# Altium footprint library 二极管.PcbLib: 12 footprints
Each footprint in its own frame and in the unit in brackets; x right, y up, seen from the top. Pads: shape width x height; smd on the part's side, far side on the other; paste and mask are expansions set on the pad; w line width, h text height; cw(c..) or ccw(c..) is an arc to the next point about the centre after c.
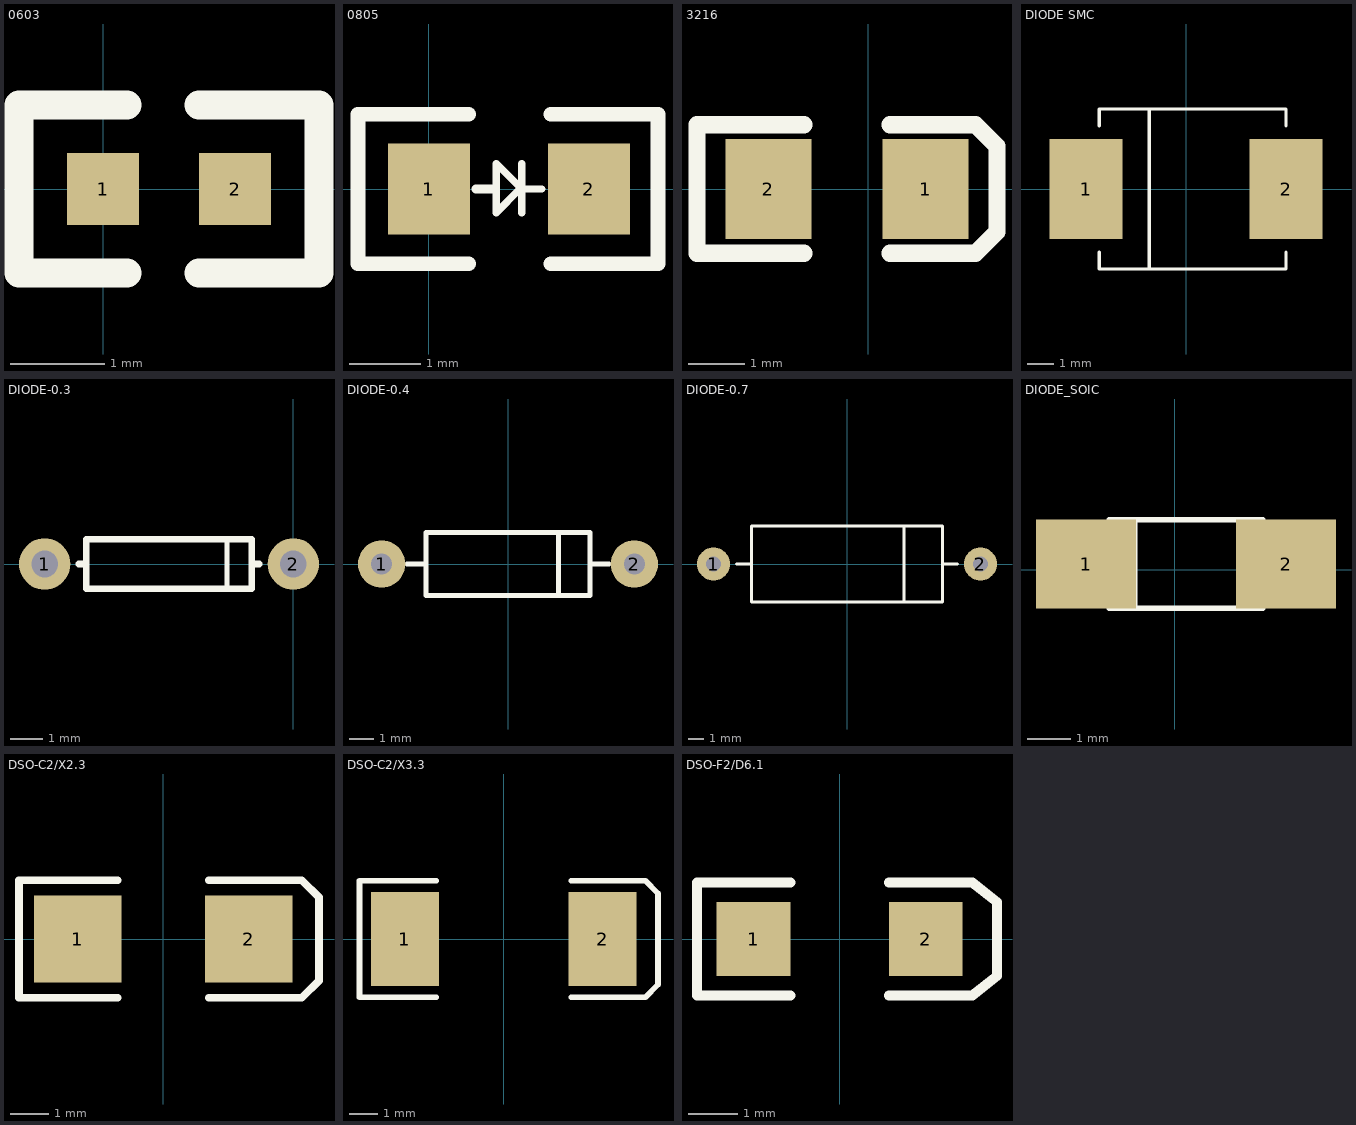
[diagram p0: the footprints below, top view; thin cyan lines are the x and y axes]

## 0603 [mil]
pads (2):
  rect 30x30 smd: 1(0,0) 2(55,0)
Top Overlay:
  lines w12: 10,-35 -35,-35 -35,35 10,35 ; 40,-35 90,-35 90,35 40,35
3D body "DIOMELF1911N.STEP": height 41.65, standoff -1.65, extent -12.4,-21.65 62.4,21.65

## 0805 [mil]
pads (2):
  rect 45x50 smd: 1(0,0) 2(88,0)
Top Overlay:
  lines w4: 51,-13 51,14 ; 62,0 51,0 ; 51,0 50,0 37,-13 37,14 51,0
  lines w5: 26,0 36,0
  lines w8: 22,-41 -39,-41 -39,41 22,41 ; 67,-41 126,-41 126,41 67,41
3D body "DIOMELF3414N.STEP": height 52.56, standoff -2.56, extent -26.93,-27.56 106.93,27.56

## 3216 [mil]
pads (2):
  rect 60x70 smd: 1(40,0) 2(-70,0)
Top Overlay:
  lines w12: -45,-45 -120,-45 -120,45 -45,45 ; 15,-45 75,-45 90,-30 90,30 75,45 15,45

## DIODE SMC [mil]
pads (2):
  rect 110x150 smd: 1(-150,0) 2(150,0)
Top Overlay:
  lines w5: -130,-95 -130,-120 150,-120 150,-95 ; -130,95 -130,120 150,120 150,95 ; -55,-120 -55,120
Mechanical 1:
  lines w1: -130,-120 150,-120 ; -130,120 150,120
3D body "DO-214AA.STEP": height 0, standoff -98.43, extent -110.25,-76.78 110.22,76.76

## DIODE-0.3 [mil]
height 78.74
pads (2):
  round 62 hole 32: 1(-300,0) 2(0,0)
Top Overlay:
  lines w5: -163,29 -154,29 ; -145,29 -138,29
  lines w6.06: -80,-30 -80,30
  lines w7.87: -259,0 -250,0 ; -41,0 -50,0 ; -50,0 -50,30 -250,30 -250,-30 -50,-30 -50,0

## DIODE-0.4 [mm]
pads (2):
  round 1.9 hole 0.85: 1(-5.08,0) 2(5.08,0)
Top Overlay:
  lines w0.2: -4.064,0 -3.302,0 ; 2.032,-1.27 2.032,1.27 ; 3.302,0 4.064,0 ; -3.302,-1.27 -3.302,1.27 3.302,1.27 3.302,-1.27 -3.302,-1.27
3D body "DO-41.STEP": height 2, standoff -3.3, extent -5.53,-1.3 5.53,1.3

## DIODE-0.7 [mm]
pads (2):
  round 2.2 hole 1: 1(-8.89,0) 2(8.89,0)
Top Overlay:
  lines w0.2: -7.366,0 -6.35,0 ; 3.81,-2.54 3.81,2.54 ; 6.35,0 7.366,0 ; -6.35,-2.54 6.35,-2.54 6.35,2.54 -6.35,2.54 -6.35,-2.54
3D body "DO-41Z.STEP": height 2, standoff -3.3, extent -5.53,-1.3 5.53,1.3

## DIODE_SOIC [mil] "Magnetic-Core Inductor with Winding Polarity Marking; 2 Leads"
pads (2):
  rect 90x80 smd: 1(-80,5) 2(100,5)
Top Overlay:
  lines w5: -58.9,-20 -58.9,-35 78.89,-35 78.89,-20 ; -58.9,30 -58.9,45 78.89,45 78.89,30 ; -36.1,-35 -36.1,45
3D body "SOD-80.STEP": height 59.06, standoff 0, extent -58.9,-24.53 78.9,34.52

## DSO-C2/X2.3 [mm]
pads (2):
  rect 2.3x2.3 smd: 1(-2.25,0) 2(2.25,0)
Top Overlay:
  lines w0.2: -1.2,-1.55 -3.8,-1.55 -3.8,1.55 -1.2,1.55 ; 1.2,-1.55 3.65,-1.55 4.1,-1.1 4.1,1.1 3.65,1.55 1.2,1.55
3D body "SOD-80.STEP": height 1.5, standoff 0, extent -1.75,-0.75 1.75,0.75

## DSO-C2/X3.3 [mm]
pads (2):
  rect 2.4x3.3 smd: 1(-3.475,0) 2(3.475,0)
Top Overlay:
  lines w0.2: -2.375,-2.05 -5.075,-2.05 -5.075,2.05 -2.375,2.05 ; 2.375,-2.05 4.975,-2.05 5.425,-1.6 5.425,1.6 4.975,2.055 ; 2.375,2.05 4.975,2.05
3D body "SOD-80.STEP": height 1.5, standoff 0, extent -1.75,-0.75 1.75,0.75

## DSO-F2/D6.1 [mm]
pads (2):
  rect 1.5x1.5 smd: 1(-1.75,0) 2(1.75,0)
Top Overlay:
  lines w0.2: -1,-1.15 -2.9,-1.15 -2.9,1.15 -1,1.15 ; 1,-1.15 2.7,-1.15 3.2,-0.75 3.2,0.75 2.7,1.15 1,1.15
3D body "SOD-80.STEP": height 1.5, standoff 0, extent -1.75,-0.75 1.75,0.75

## PCBComponent_1 [mil]